# EAGLE library part WE-FB_ER9.5 (library Wurth_Power Magnetics_WE-FB)
WE-FB Flyback Transformer suitable for LT3573/ LT3574/ LT3575/ LT3748 Characteristics easy design in solution less external components needed small board space low cost no optocoupler needed! long term reliability voltage control no aging same external parts for different output voltages easy design of custom power supply due to standard circuit and change of transformers and two components for feedback loop Isolation voltage up to 2.5 kV Applications Isolated power design Sensor interfaces Isolated telecom converters Power over Ethernet The "VALUE"shown for symbol and packaging is Ooutput Voltage 1 Output Current 1 <https://katalog.we-online.com/media/images/v2/o35283v209%20Family_we-fb_LT%20Kits_gruppe.jpg> Details see: https://katalog.we-online.com/en/pbs/WE-FB Updated by Yingchun,Shan 2019-08-27 2019 Wurth Elektronik
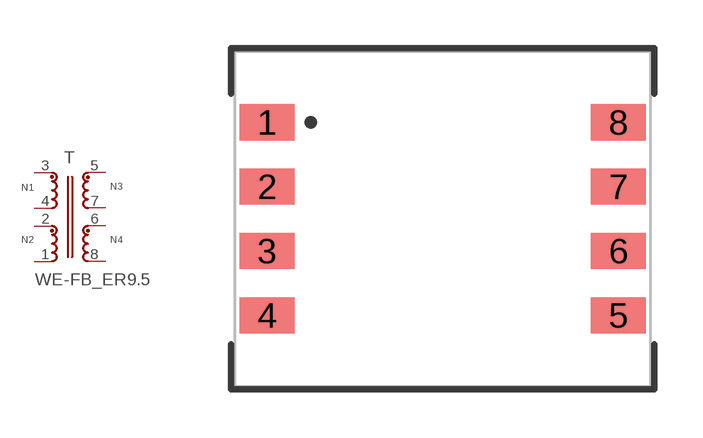
[diagram p7: symbol with the pads of WE-FB_ER9.5; footprint WE-FB_ER9.5]

Designator prefix T

## WE-FB_ER9.5_750370042 (DATASHEET-URL: https://katalog.we-online.com/pbs/datasheet/750370042.pdf; IO2: 0.1A; IO3: 0.1A; ISAT: 1.5A; L: 15uH; LSMIN: 0.25uH; N: 1:1:1:1; PART-NUMBER: 750370042; VALUE: 5V 0.2A; VI: 5V(DC); VO2: 5V; VO3: 5V; VT: 1500V(AC))  [WE-FB_ER9.5]
1  4  pas
2  3  pas
3  1  pas
4  2  pas
5  8  pas
6  6  pas
7  7  pas
8  5  pas

## Footprint WE-FB_ER9.5 (pad centres in mm)
WE-FB Flyback Transformer suitable for LT3573/ LT3574/ LT3575/ LT3748 Size: ER9.5 SMD 8Pin
smd 1.7 x 1.12: 1 -5.46,3; 2 -5.46,1; 3 -5.46,-1; 4 -5.46,-3; 5 5.46,-3; 6 5.46,-1; 7 5.46,1; 8 5.46,3